# Altium schematic symbol library 1-1734346-1.SchLib: 1 symbol
Pins are listed as number, name and electrical type; pins without a type are passive.

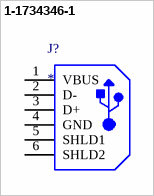
[diagram p0: symbol 1-1734346-1]

## 1-1734346-1
designator J?
CONN RCPT USB2.0 TYPEB 4P SMD RA / Manufacturer PN: 1-1734346-1
footprint 1-1734346-1
pins: 1 VBUS, 2 D-, 3 D+, 4 GND, 5 SHLD1, 6 SHLD2